# EAGLE library part ADUM1300ARWZ (library ADUM1300)
Triple-Channel Digital Isolators
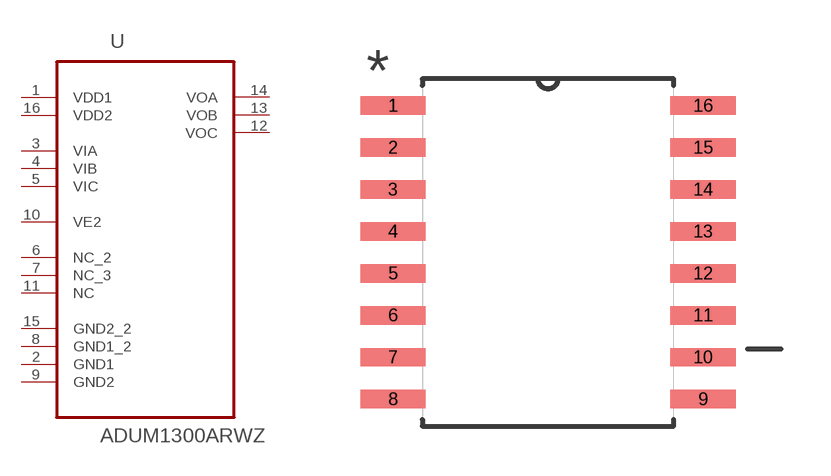
[diagram p0: symbol with the pads of SOIC127P1032X265-16N; footprint SOIC127P1032X265-16N]

Designator prefix U

## ADUM1300ARWZ (MPN: ADUM1300ARWZ; OC_FARNELL: 1226209; OC_NEWARK: 19M8751; PACKAGE: SOIC-16; SUPPLIER: Analog Devices)  [SOIC127P1032X265-16N]
1  VDD1  pwr
2  GND1  pas
3  VIA  in
4  VIB  in
5  VIC  in
6  NC_2  nc
7  NC_3  nc
8  GND1_2  pas
9  GND2  pas
10  VE2  in
11  NC  nc
12  VOC  out
13  VOB  out
14  VOA  out
15  GND2_2  pas
16  VDD2  pwr

## Footprint SOIC127P1032X265-16N (pad centres in mm)
smd 1.981 x 0.559: 1 -4.699,4.445; 2 -4.699,3.175; 3 -4.699,1.905; 4 -4.699,0.635; 5 -4.699,-0.635; 6 -4.699,-1.905; 7 -4.699,-3.175; 8 -4.699,-4.445; 9 4.699,-4.445; 10 4.699,-3.175; 11 4.699,-1.905; 12 4.699,-0.635; 13 4.699,0.635; 14 4.699,1.905; 15 4.699,3.175; 16 4.699,4.445